# Altium schematic symbol library CN 5POS JST ZE SMT.Schlib: 1 symbol
Pins are listed as number, name and electrical type; pins without a type are passive.

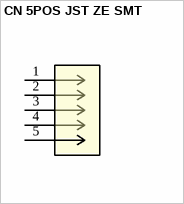
[diagram p0: symbol CN 5POS JST ZE SMT]

## CN 5POS JST ZE SMT
designator J?, comment BM05B-ZESS-TBT(LF)(SN)
CONN HEADER VERT SMD 5POS ZE
footprint JST ZE SMT 5POS (5 POS HDR JST ZE)
pins: 1, 2, 3, 4, 5